# EAGLE library part LM2902DT (library pixel_masterlib)
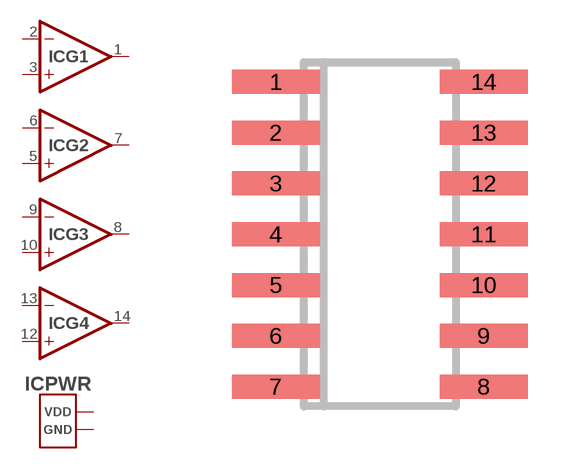
[diagram p15: symbol with the pads of SO-14; footprint SO-14]

Designator prefix IC; gates G1=OPAMP G2=OPAMP G3=OPAMP G4=OPAMP PWR=PWR

## LM2902DT (LINK: https://www.chipdip.ru/product/lm2902dt-2)  [SO-14]
1  G1:OUT  out
2  G1:-IN  in
3  G1:+IN  in
4  PWR:VDD
5  G2:+IN  in
6  G2:-IN  in
7  G2:OUT  out
8  G3:OUT  out
9  G3:-IN  in
10  G3:+IN  in
11  PWR:GND
12  G4:+IN  in
13  G4:-IN  in
14  G4:OUT  out

## Footprint SO-14 (pad centres in mm)
Small Outline Narrow Plastic Gull Wing 150-mil body, package type SL
smd 2.2 x 0.6: 1 -2.6,3.81; 2 -2.6,2.54; 3 -2.6,1.27; 4 -2.6,0; 5 -2.6,-1.27; 6 -2.6,-2.54; 7 -2.6,-3.81; 8 2.6,-3.81; 9 2.6,-2.54; 10 2.6,-1.27; 11 2.6,0; 12 2.6,1.27; 13 2.6,2.54; 14 2.6,3.81